# Altium schematic symbol library Nano_D_Conn_Schematic.SchLib: 1 symbol
Pins are listed as number, name and electrical type; pins without a type are passive.

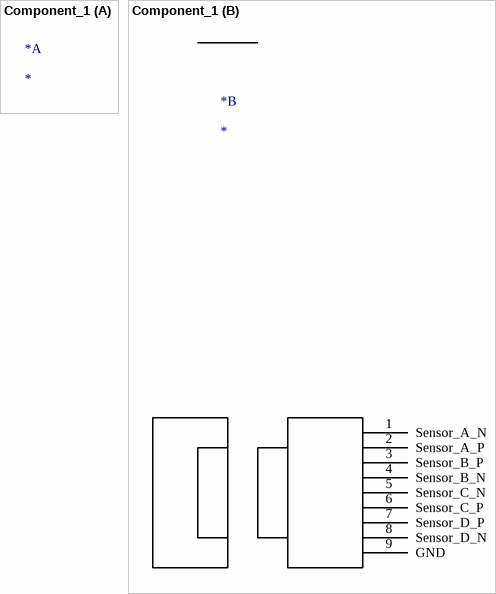
[diagram p0: symbol Component_1]

## Component_1
designator *
part B pins: 1 Sensor_A_N, 2 Sensor_A_P, 3 Sensor_B_P, 4 Sensor_B_N, 5 Sensor_C_N, 6 Sensor_C_P, 7 Sensor_D_P, 8 Sensor_D_N, 9 GND